# Altium footprint library adafruit.PCBLIB: 643 footprints (part 23 of 41)
Each footprint in its own frame and in the unit in brackets; x right, y up, seen from the top. Pads: shape width x height; smd on the part's side, far side on the other; paste and mask are expansions set on the pad; w line width, h text height; cw(c..) or ccw(c..) is an arc to the next point about the centre after c.
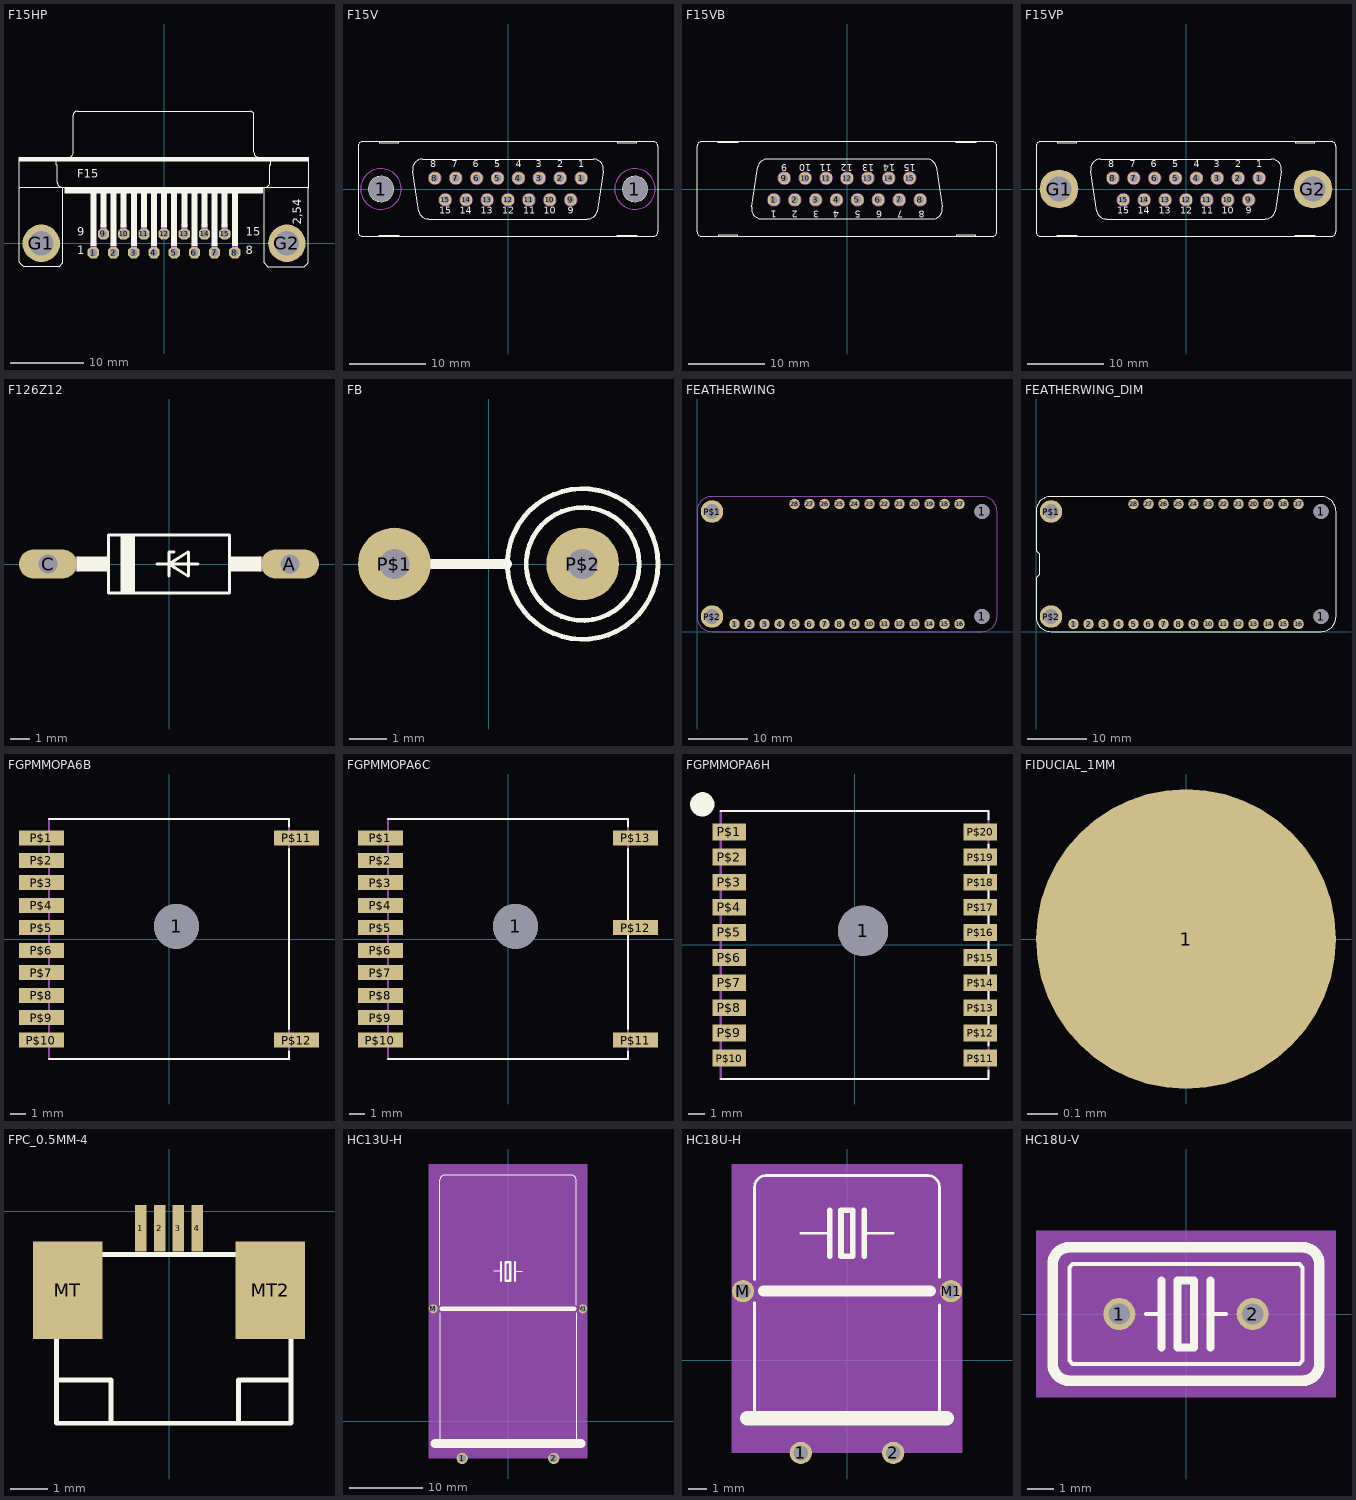
[diagram p22: the footprints below, top view; thin cyan lines are the x and y axes]

## F15HP [mil]
pads (17):
  oct 60x60 hole 40: 1(-378,-50) 2(-270,-50) 3(-162,-50) 4(-54,-50) 5(54,-50) 6(162,-50) 7(270,-50) 8(378,-50) 9(-324,50) 10(-216,50) 11(-108,50) 12(0,50) 13(108,50) 14(216,50) 15(324,50)
  round 200 hole 130: G1(-656,0) G2(656,0)
Top Overlay:
  circle w6: c-656,0 r65
  circle w6: c656,0 r65
  rectangle: -530,270 525,300
  rectangle: -775,440 770,460
  rectangle: -394,-15 -362,270
  rectangle: -340,85 -308,270
  rectangle: -286,-15 -254,270
  rectangle: -232,85 -200,270
  rectangle: -178,-15 -146,270
  rectangle: -124,85 -92,270
  rectangle: -70,-15 -38,270
  rectangle: -16,85 16,270
  rectangle: 38,-15 70,270
  rectangle: 92,85 124,270
  rectangle: 146,-15 178,270
  rectangle: 200,85 232,270
  rectangle: 254,-15 286,270
  rectangle: 308,85 340,270
  rectangle: 362,-15 394,270
  lines w6: -545,300 cw(c-545,325) -570,325 -570,420 -575,420 -575,440 ; -510,460 ccw(c-510,485) -485,485 -485,685 cw(c-465,685) -465,705 -455,705 450,705 460,705 cw(c460,685) 480,685 480,485 ccw(c505,485) 505,460 ; 540,300 ccw(c540,325) 565,325 565,420 570,420 570,440 ; -775,300 -575,300 -540,300 ; -775,300 -775,420 -775,440 ; -775,300 -775,295 -775,-100 -750,-125 -560,-125 -540,-105 -540,300 ; -775,440 -775,460 -470,460 465,460 770,460 770,440 ; -775,440 -675,440 -575,440 ; -575,440 570,440 ; -540,300 -530,300 ; -530,300 -530,270 525,270 525,300 ; -530,300 525,300 ; 525,300 535,300 ; 535,300 570,300 770,300 ; 535,300 535,-105 555,-125 750,-125 770,-105 770,295 770,300 ; 570,440 670,440 770,440 ; 770,300 770,420 770,440
  text "1" at -465,-75 h77.5
  text "8" at 435,-75 h77.5
  text "9" at -465,25 h77.5
  text "15" at 435,25 h77.5
  text "2,54" at 750,100 h77.5
  text "F15" at -465,335 h77.5
Mechanical 16:
  lines w32: -378,-45 -378,-5 ; -324,55 -324,95 ; -270,-45 -270,-5 ; -216,55 -216,95 ; -162,-45 -162,-5 ; -108,55 -108,95 ; -54,-45 -54,-5 ; 0,55 0,95 ; 54,-45 54,-5 ; 108,55 108,95 ; 162,-45 162,-5 ; 216,55 216,95 ; 270,-45 270,-5 ; 324,55 324,95 ; 378,-45 378,-5

## F15V [mil]
pads (17):
  round 130 hole 130: 1(-656,0) 1(656,0)
  oct 60x60 hole 40: 1(378,56) 2(270,56) 3(162,56) 4(54,56) 5(-54,56) 6(-162,56) 7(-270,56) 8(-378,56) 9(324,-56) 10(216,-56) 11(108,-56) 12(0,-56) 13(-108,-56) 14(-216,-56) 15(-324,-56)
Top Overlay:
  circle w6: c-656,0 r65
  circle w6: c656,0 r65
  lines w6: -492,92 -461,-116 ; -491.97,91.61 cw(c-440,102) -440,155 440,155 cw(c440,101.99) 491.79,90.7 ; -461.3,-115.33 ccw(c-410,-101.99) -410,-155 410,-155 ccw(c409.99,-102) 461.52,-114.37 ; 461,-115 492,91 ; -665,-245 -665,-240 -565,-240 -565,-245 ; -665,-245 -565,-245 ; -665,-245 -750,-245 cw(c-750,-220) -775,-220 -775,220 cw(c-750,220) -750,245 -665,245 ; -665,245 -665,240 -565,240 -565,245 ; -665,245 -565,245 ; -565,-245 565,-245 ; -565,245 565,245 ; 565,-245 565,-240 665,-240 665,-245 ; 565,-245 665,-245 ; 565,245 565,240 665,240 665,245 ; 565,245 665,245 ; 665,-245 750,-245 ccw(c750,-220) 775,-220 775,220 ccw(c750,220) 750,245 665,245
  text "1" at 364,100 h60.45
  text "2" at 254,100 h60.45
  text "3" at 144,100 h60.45
  text "4" at 39,100 h60.45
  text "5" at -71,100 h60.45
  text "6" at -181,100 h60.45
  text "7" at -291,100 h60.45
  text "8" at -401,100 h60.45
  text "9" at 309,-140 h60.45
  text "10" at 185,-140 h60.45
  text "11" at 80,-140 h60.45
  text "12" at -30,-140 h60.45
  text "13" at -140,-140 h60.45
  text "14" at -250,-140 h60.45
  text "15" at -355,-140 h60.45
Mechanical 9 keep-out:
  circle w0: c656,0 r105
  circle w0: c-656,0 r105
Mechanical 10:
  circle w0: c656,0 r105
  circle w0: c-656,0 r105
Mechanical 16:
  circle w10: c108,-56 r30
  circle w10: c162,56 r30
  circle w10: c216,-56 r30
  circle w10: c270,56 r30
  circle w10: c54,56 r30
  circle w10: c0,-56 r30
  circle w10: c-54,56 r30
  circle w10: c-108,-56 r30
  circle w10: c-162,56 r30
  circle w10: c378,56 r30
  circle w10: c324,-56 r30
  circle w10: c-270,56 r30
  circle w10: c-378,56 r30
  circle w10: c-216,-56 r30
  circle w10: c-324,-56 r30

## F15VB [mil]
pads (15):
  oct 60x60 hole 40: 1(-378,-56) 2(-270,-56) 3(-162,-56) 4(-54,-56) 5(54,-56) 6(162,-56) 7(270,-56) 8(378,-56) 9(-324,56) 10(-216,56) 11(-108,56) 12(0,56) 13(108,56) 14(216,56) 15(324,56)
Top Overlay:
  lines w6: -492,-91 -461,115 ; -491.79,-90.7 ccw(c-440,-101.99) -440,-155 440,-155 ccw(c440,-102) 491.97,-91.61 ; -461.52,114.37 cw(c-409.99,102) -410,155 410,155 cw(c410,101.99) 461.3,115.33 ; 461,116 492,-92 ; -665,-245 -750,-245 cw(c-750,-220) -775,-220 -775,220 cw(c-750,220) -750,245 -665,245 ; -665,-245 -665,-240 -565,-240 -565,-245 ; -665,-245 -565,-245 ; -665,245 -565,245 ; -665,245 -665,240 -565,240 -565,245 ; -565,-245 565,-245 ; -565,245 565,245 ; 565,-245 565,-240 665,-240 665,-245 ; 565,-245 665,-245 ; 565,245 665,245 ; 565,245 565,240 665,240 665,245 ; 665,-245 750,-245 ccw(c750,-220) 775,-220 775,220 ccw(c750,220) 750,245 665,245
  text "1" at -364,-100 h60.45
  text "2" at -254,-100 h60.45
  text "3" at -144,-100 h60.45
  text "4" at -39,-100 h60.45
  text "5" at 71,-100 h60.45
  text "6" at 181,-100 h60.45
  text "7" at 291,-100 h60.45
  text "8" at 401,-100 h60.45
  text "9" at -309,140 h60.45
  text "10" at -185,140 h60.45
  text "11" at -80,140 h60.45
  text "12" at 30,140 h60.45
  text "13" at 140,140 h60.45
  text "14" at 250,140 h60.45
  text "15" at 355,140 h60.45
Mechanical 16:
  circle w10: c-108,56 r30
  circle w10: c-162,-56 r30
  circle w10: c-216,56 r30
  circle w10: c-270,-56 r30
  circle w10: c-54,-56 r30
  circle w10: c0,56 r30
  circle w10: c54,-56 r30
  circle w10: c108,56 r30
  circle w10: c162,-56 r30
  circle w10: c-378,-56 r30
  circle w10: c-324,56 r30
  circle w10: c270,-56 r30
  circle w10: c378,-56 r30
  circle w10: c216,56 r30
  circle w10: c324,56 r30

## F15VP [mil]
pads (17):
  oct 60x60 hole 40: 1(378,56) 2(270,56) 3(162,56) 4(54,56) 5(-54,56) 6(-162,56) 7(-270,56) 8(-378,56) 9(324,-56) 10(216,-56) 11(108,-56) 12(0,-56) 13(-108,-56) 14(-216,-56) 15(-324,-56)
  round 200 hole 130: G1(-656,0) G2(656,0)
Top Overlay:
  circle w6: c-656,0 r65
  circle w6: c656,0 r65
  lines w6: -492,92 -461,-116 ; -491.97,91.61 cw(c-440,102) -440,155 440,155 cw(c440,101.99) 491.79,90.7 ; -461.3,-115.33 ccw(c-410,-101.99) -410,-155 410,-155 ccw(c409.99,-102) 461.52,-114.37 ; 461,-115 492,91 ; -665,-245 -665,-240 -565,-240 -565,-245 ; -665,-245 -565,-245 ; -665,-245 -750,-245 cw(c-750,-220) -775,-220 -775,220 cw(c-750,220) -750,245 -665,245 ; -665,245 -665,240 -565,240 -565,245 ; -665,245 -565,245 ; -565,-245 565,-245 ; -565,245 565,245 ; 565,-245 565,-240 665,-240 665,-245 ; 565,-245 665,-245 ; 565,245 565,240 665,240 665,245 ; 565,245 665,245 ; 665,-245 750,-245 ccw(c750,-220) 775,-220 775,220 ccw(c750,220) 750,245 665,245
  text "1" at 364,100 h60.45
  text "2" at 254,100 h60.45
  text "3" at 144,100 h60.45
  text "4" at 39,100 h60.45
  text "5" at -71,100 h60.45
  text "6" at -181,100 h60.45
  text "7" at -291,100 h60.45
  text "8" at -401,100 h60.45
  text "9" at 309,-140 h60.45
  text "10" at 185,-140 h60.45
  text "11" at 80,-140 h60.45
  text "12" at -30,-140 h60.45
  text "13" at -140,-140 h60.45
  text "14" at -250,-140 h60.45
  text "15" at -355,-140 h60.45
Mechanical 16:
  circle w10: c108,-56 r30
  circle w10: c162,56 r30
  circle w10: c216,-56 r30
  circle w10: c270,56 r30
  circle w10: c54,56 r30
  circle w10: c0,-56 r30
  circle w10: c-54,56 r30
  circle w10: c-108,-56 r30
  circle w10: c-162,56 r30
  circle w10: c378,56 r30
  circle w10: c324,-56 r30
  circle w10: c-270,56 r30
  circle w10: c-378,56 r30
  circle w10: c-216,-56 r30
  circle w10: c-324,-56 r30

## F126Z12 [mil]
pads (2):
  oval 120x60 hole 40: A(250,0) C(-250,0)
Top Overlay:
  rectangle: -100,-60 -70,60
  rectangle: -191,-16 -125,16
  rectangle: 125,-16 191,16
  lines w6: -25,0 0,0 ; 0,-25 0,0 ; 10,25 0,25 0,0 ; 60,0 0,0 ; 0,0 40,-25 40,25 0,0 ; -125,-60 125,-60 125,60 -125,60 -125,-60
Mechanical 16:
  lines w32: -250,0 -190,0 ; 190,0 250,0

## FB [mil]
pads (2):
  round 76 hole 31.5: P$1(-98.43,0) P$2(98.43,0)
Top Overlay:
  circle w5: c98.43,0 r78.74
  circle w5: c98.43,0 r59.06
  lines w10: -59.06,0 19.69,0

## FEATHERWING [mil]
pads (32):
  round 70 hole 39.37: 1(250,50) 2(350,50) 3(450,50) 4(550,50) 5(650,50) 6(750,50) 7(850,50) 8(950,50) 9(1050,50) 10(1150,50) 11(1250,50) 12(1350,50) 13(1450,50) 14(1550,50) 15(1650,50) 16(1750,50) 17(1750,850) 18(1650,850) 19(1550,850) 20(1450,850) 21(1350,850) 22(1250,850) 23(1150,850) 24(1050,850) 25(950,850) 26(850,850) 27(750,850) 28(650,850)
  round 100 hole 100: 1(1900,100) 1(1900,800)
  round 150 hole 98.43: P$1(100,800) P$2(100,100)
Mechanical 1:
  lines w0: 0,100 0,800 cw(c100,800) 100,900 1900,900 cw(c1900,800) 2000,800 2000,100 cw(c1900,100) 1900,0 100,0 cw(c100,100) 0,100

## FEATHERWING_DIM [mil]
pads (32):
  round 70 hole 39.37: 1(250,50) 2(350,50) 3(450,50) 4(550,50) 5(650,50) 6(750,50) 7(850,50) 8(950,50) 9(1050,50) 10(1150,50) 11(1250,50) 12(1350,50) 13(1450,50) 14(1550,50) 15(1650,50) 16(1750,50) 17(1750,850) 18(1650,850) 19(1550,850) 20(1450,850) 21(1350,850) 22(1250,850) 23(1150,850) 24(1050,850) 25(950,850) 26(850,850) 27(750,850) 28(650,850)
  round 100 hole 100: 1(1900,100) 1(1900,800)
  round 150 hole 98.43: P$1(100,800) P$2(100,100)
Top Overlay:
  lines w0: 0,100 0,360 20,380 20,520 0,540 0,800 cw(c100,800) 100,900 1900,900 cw(c1900,800) 2000,800 2000,100 cw(c1900,100) 1900,0 100,0 cw(c100,100) 0,100

## FGPMMOPA6B [mm]
pads (13):
  round 3 hole 3: 1(0.5,0.85)
  rect 3x1 smd: P$1(-8.5,6.75) P$2(-8.5,5.25) P$3(-8.5,3.75) P$4(-8.5,2.25) P$5(-8.5,0.75) P$6(-8.5,-0.75) P$7(-8.5,-2.25) P$8(-8.5,-3.75) P$9(-8.5,-5.25) P$10(-8.5,-6.75) P$11(8.5,6.75) P$12(8.5,-6.75)
Top Overlay:
  lines w0.127: -8,-8 8,-8 8,-7.5 ; -8,8 8,8 8,7.5 ; 8,-6 8,6
Mechanical 16:
  circle w0.813: c0.5,0.85 r0.5
  lines w0.127: -8,-8 8,-8 8,8 -8,8 -8,-8

## FGPMMOPA6C [mm]
pads (14):
  round 3 hole 3: 1(0.5,0.85)
  rect 3x1 smd: P$1(-8.5,6.75) P$2(-8.5,5.25) P$3(-8.5,3.75) P$4(-8.5,2.25) P$5(-8.5,0.75) P$6(-8.5,-0.75) P$7(-8.5,-2.25) P$8(-8.5,-3.75) P$9(-8.5,-5.25) P$10(-8.5,-6.75) P$11(8.5,-6.75) P$12(8.5,0.75) P$13(8.5,6.75)
Top Overlay:
  lines w0.127: -8,-8 8,-8 8,-7.5 ; -8,8 8,8 8,7.5 ; 8,-6 8,6
Mechanical 16:
  circle w0.813: c0.5,0.85 r0.5
  lines w0.127: -8,-8 8,-8 8,8 -8,8 -8,-8

## FGPMMOPA6H [mm]
pads (21):
  round 3 hole 3: 1(0.5,0.85)
  rect 2x1 smd: P$1(-7.5,6.75) P$2(-7.5,5.25) P$3(-7.5,3.75) P$4(-7.5,2.25) P$5(-7.5,0.75) P$6(-7.5,-0.75) P$7(-7.5,-2.25) P$8(-7.5,-3.75) P$9(-7.5,-5.25) P$10(-7.5,-6.75) P$11(7.5,-6.75) P$12(7.5,-5.25) P$13(7.5,-3.75) P$14(7.5,-2.25) P$15(7.5,-0.75) P$16(7.5,0.75) P$17(7.5,2.25) P$18(7.5,3.75) P$19(7.5,5.25) P$20(7.5,6.75)
Top Overlay:
  circle w0.813: c-9.1,8.4 r0.316
  lines w0.127: -8,-8 8,-8 8,-7.5 ; -8,8 8,8 8,7.5 ; 8,-6 8,6
Mechanical 16:
  circle w0.813: c0.5,0.85 r0.5
  lines w0.127: -8,-8 8,-8 8,8 -8,8 -8,-8

## FIDUCIAL_1MM [mm]
pads (1):
  rrect100% 1x1 smd: 1(0,0)
Top Solder:
  region: 0,0 0.254,0 0.254,0.254 0,0.254
Mechanical 8 keep-out:
  region: 0,0 0.254,0 0.254,0.254 0,0.254

## FPC_0.5MM-4 [mil]
pads (6):
  rect 11.81x49.21 smd: 1(-29.53,-17.72) 2(-9.84,-17.72) 3(9.84,-17.72) 4(29.53,-17.72)
  rect 72.83x102.36 smd: MT(-106.3,-82.68) MT2(106.3,-82.68)
Top Overlay:
  lines w5: -61.02,-220.47 -61.02,-177.17 -118.11,-177.17 ; 72.83,-220.47 72.83,-177.17 125.98,-177.17 ; -118.11,-177.17 -118.11,-222.44 127.95,-222.44 127.95,-64.96 108.27,-45.28 -96.46,-45.28 -118.11,-66.93 -118.11,-177.17

## HC13U-H [mil]
pads (4):
  round 60 hole 40: 1(-245,-200) 2(245,-200)
  round 48 hole 32: M(-400,600) M1(400,600)
Top Overlay:
  lines w6: -365,-120 -365,580 ; -365,620 -365,1290 cw(c-340,1290) -340,1315 340,1315 cw(c340,1290) 365,1290 365,620 ; -75,800 -37,800 ; 37,800 75,800 ; 365,-120 365,580
  lines w12: -37,750 -37,800 -37,850 ; 37,750 37,800 37,850 ; -13,750 -13,850 12,850 12,750 -13,750
  lines w24: -355,600 355,600
  lines w50: -390,-120 -365,-120 365,-120 390,-120
Mechanical 10:
  rectangle: -425,-200 425,1375
Mechanical 16:
  lines w6: -365,580 -365,620 ; 365,580 365,620
  lines w24: -400,600 -360,600 ; 360,600 400,600
  lines w32: -245,-200 -245,-125 ; 245,-200 245,-125

## HC18U-H [mil]
pads (4):
  round 48 hole 32: 1(-100,-200) 2(100,-200) M(-225,150) M1(225,150)
Top Overlay:
  lines w6: -200,-125 -200,125 ; -200,175 -200,375 cw(c-175,375) -175,400 175,400 cw(c175,375) 200,375 200,180 ; -100,275 -37,275 ; 37,275 100,275 ; 200,-125 200,120
  lines w12: -37,225 -37,275 -37,325 ; 37,225 37,275 37,325 ; -13,225 -13,325 12,325 12,225 -13,225
  lines w24: -180,150 180,150
  lines w32: -215,-125 -200,-125 200,-125 215,-125
Mechanical 10:
  rectangle: -250,-200 250,425
Mechanical 16:
  lines w6: -200,125 -200,175 ; 200,120 200,150 200,180
  lines w24: -225,150 -185,150 ; -100,-200 -100,-130 ; 100,-200 100,-130 ; 180,150 200,150 225,150

## HC18U-V [mil]
pads (2):
  round 48 hole 32: 1(-100,0) 2(100,0)
Top Overlay:
  lines w6: -60,0 -37,0 ; 37,0 60,0 ; -175,-70 -175,70 -170,75 170,75 175,70 175,-70 170,-75 -170,-75 -175,-70
  lines w12: -37,-50 -37,0 -37,50 ; 37,-50 37,0 37,50 ; -13,-50 -13,50 12,50 12,-50 -13,-50
  lines w16: -200,-75 -200,75 cw(c-175,75) -175,100 175,100 cw(c175,75) 200,75 200,-75 cw(c175,-75) 175,-100 -175,-100 cw(c-175,-75) -200,-75
Mechanical 10:
  rectangle: -225,-125 225,125